# EAGLE library part 219-3LPSTR (library MIDI router parts)
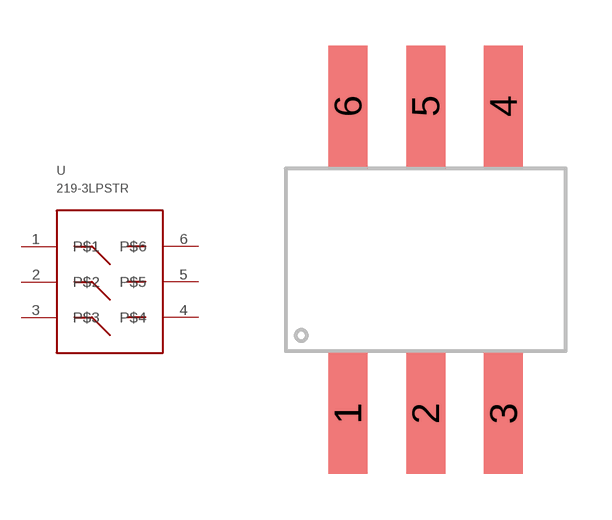
[diagram p14: symbol with the pads of 219-3LPSTR; footprint 219-3LPSTR]

Designator prefix -

## 219-3LPSTR  [219-3LPSTR]
1  P$1
2  P$2
3  P$3
4  P$4
5  P$5
6  P$6

## Footprint 219-3LPSTR (pad centres in mm)
DBV (R-PDSO-G6) PLASTIC SMALL-OUTLINE PACKAGE SOT (SOT-23) - DBV Source: http://focus.ti.com/lit/ds/symlink/sn74lvc1g3157.
smd 1.27 x 3.937: 1 -2.54,-5.08; 2 0,-5.08; 3 2.54,-5.08; 4 2.54,4.953; 5 0,4.953; 6 -2.54,4.953